# Altium footprint library IPC-7352 SOT89_M.PcbLib: 1 footprints
Each footprint in its own frame and in the unit in brackets; x right, y up, seen from the top. Pads: shape width x height; smd on the part's side, far side on the other; paste and mask are expansions set on the pad; w line width, h text height; cw(c..) or ccw(c..) is an arc to the next point about the centre after c.
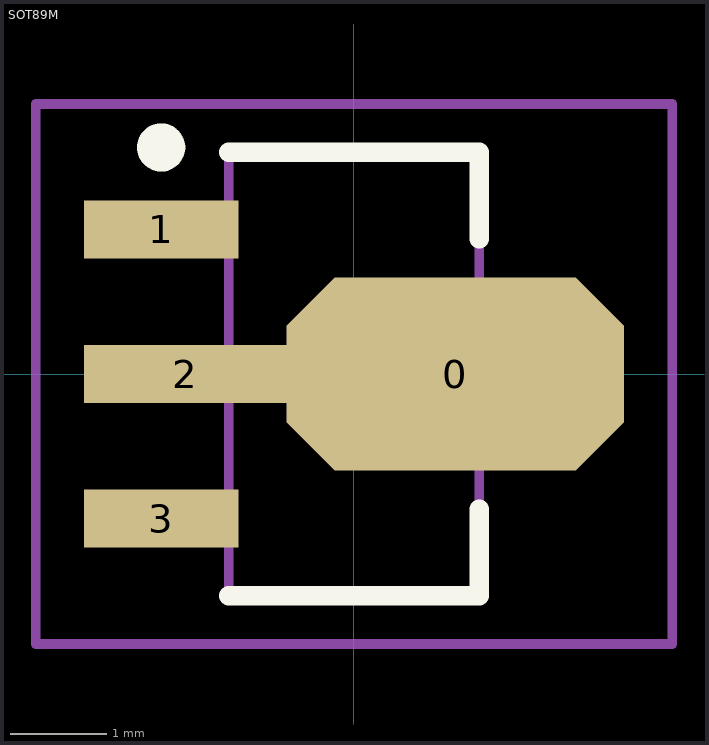
[diagram p0: the footprint, top view; thin cyan lines are the x and y axes]

## SOT89M [mm] "SOT, 3-Leads, Body 4.6 x 2.6 mm, Pitch 1.5mm, IPC Low Density"
height 1.8
pads (4):
  oct 3.5x2 smd: 0(1.05,0)
  rect 1.6x0.6 smd: 1(-2,1.5) 3(-2,-1.5)
  rect 2.1x0.6 smd: 2(-1.75,0)
Top Overlay:
  circle w0.25: c-2,2.35 r0.125
  lines w0.2: -1.3,-2.3 1.3,-2.3 1.3,-1.4 ; -1.3,2.3 1.3,2.3 1.3,1.4
Mechanical 13:
  lines w0.1: -1.3,-2.3 1.3,-2.3 1.3,2.3 -1.3,2.3 -1.3,-2.3
Mechanical 15:
  lines w0.1: -0.5,0 0.5,0 ; 0,-0.5 0,0.5 ; -3.3,-2.8 3.3,-2.8 3.3,2.8 -3.3,2.8 -3.3,-2.8
3D body: height 1.8, standoff 0, extent -1.3,-2.3 1.3,2.3